# EAGLE library part TC2030 (library Connectors)
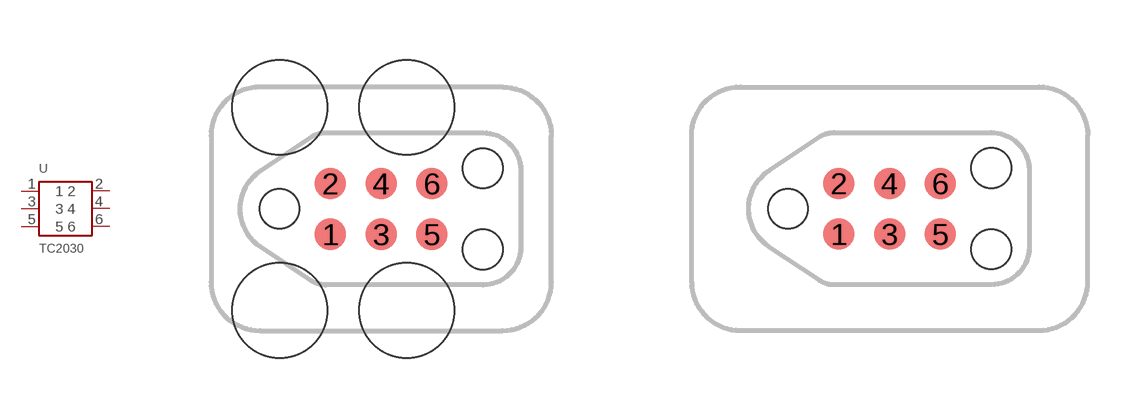
[diagram p15: symbol with the pads of TC2030-IDC; footprints TC2030-IDC, TC2030-ICD-NL]

Designator prefix U

## TC2030-IDC  [TC2030-IDC]
1  1
2  2
3  3
4  4
5  5
6  6

## TC2030-IDC-NL  [TC2030-ICD-NL]
Pads as for TC2030-IDC

## Footprint TC2030-IDC (pad centres in mm)
smd 0.787 x 0.787: 1 -1.27,-0.635; 2 -1.27,0.635; 3 0,-0.635; 4 0,0.635; 5 1.27,-0.635; 6 1.27,0.635
hole 0.991 at -2.54,0
hole 0.991 at 2.54,1.016
hole 0.991 at 2.54,-1.016
hole 2.375 at -2.54,2.54
hole 2.375 at 0.635,2.54
hole 2.375 at 0.635,-2.54
hole 2.375 at -2.54,-2.54

## Footprint TC2030-ICD-NL (pad centres in mm)
smd 0.787 x 0.787: 1 -1.27,-0.635; 2 -1.27,0.635; 3 0,-0.635; 4 0,0.635; 5 1.27,-0.635; 6 1.27,0.635
hole 0.991 at -2.54,0
hole 0.991 at 2.54,1.016
hole 0.991 at 2.54,-1.016